# Altium schematic symbol library Switches.SchLib: 1 symbol
Pins are listed as number, name and electrical type; pins without a type are passive.

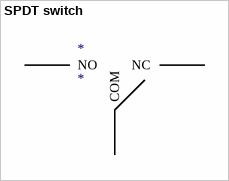
[diagram p0: symbol SPDT switch]

## SPDT switch
designator *
footprint SPDT right angle
footprint SPDT right angle
pins: 1 NO, 2 COM, 3 NC